# EAGLE library part LMZ2200* (library NewSDR)
TI/National Simple Switcher Module
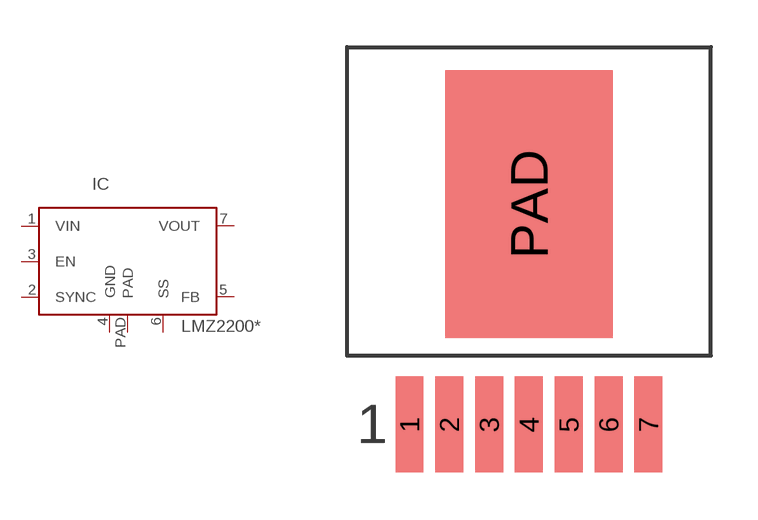
[diagram p207: symbol with the pads of TZA07A; footprint TZA07A]

Designator prefix IC

## LMZ22003, LMZ22005  [TZA07A]
1  VIN  pwr
2  SYNC  pas
3  EN  in
4  GND  pwr
5  FB  pas
6  SS  pas
7  VOUT  pwr
PAD  PAD  pwr

## Footprint TZA07A (pad centres in mm)
National Semiconductor 7-lead TZA package for LMZ DC-DC modules
smd 0.89 x 3.06: 1 -3.81,0; 2 -2.54,0; 3 -1.27,0; 4 0,0; 5 1.27,0; 6 2.54,0; 7 3.81,0
smd 5.35 x 8.54: PAD 0,7.035